# Altium schematic symbol library BH-49A-5-T-BK.SchLib: 2 symbols
Pins are listed as number, name and electrical type; pins without a type are passive.

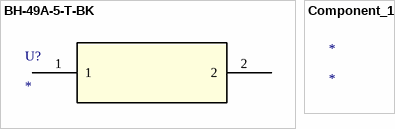
[diagram p0: symbols BH-49A-5-T-BK to Component_1]

## BH-49A-5-T-BK
designator U?
No Description Available; Mfr_Name: ADAM TECHNOLOGIES INC; RefDes: RefDes; Type: Type
footprint BH-49A-5-T-BK_ADM
pins: 1, 2

## Component_1
designator *